# Altium schematic symbol library LTC2066-LTC2067-LTC2068.SchLib: 1 symbol
Pins are listed as number, name and electrical type; pins without a type are passive.

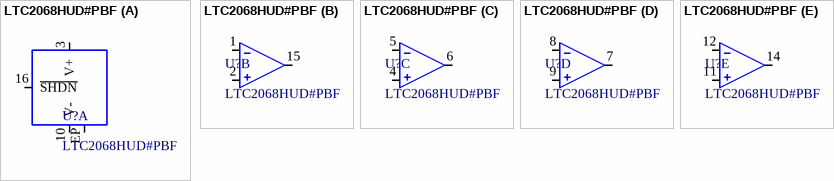
[diagram p0: symbol LTC2068HUD#PBF]

## LTC2068HUD#PBF
designator U?
Zero-Drift Amplifier 4 Circuit Rail-to-Rail 16-QFN (3x3); Manufacturer 1: Analog Devices Inc.; Type: LTC2068HUD#PBF; Manufacturer Part Number 1: LTC2068HUD#PBF
footprint QFN16_0.5_C
part A pins: 3 V+, 10 V-, 16 ~{SHDN}, EP
part B pins: 1 INA-, 2 INA+, 15 OUTA
part C pins: 4 INB+, 5 INB-, 6 OUTB
part D pins: 7 OUTC, 8 INC-, 9 INC+
part E pins: 11 IND+, 12 IND-, 14 OUTD